# Altium schematic symbol library TS472.SchLib: 1 symbol
Pins are listed as number, name and electrical type; pins without a type are passive.

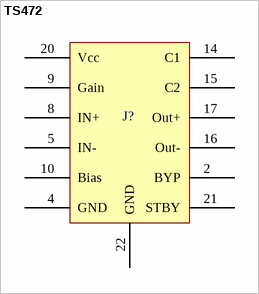
[diagram p0: symbol TS472]

## TS472
designator J?  (value not drawn)
footprint TS472
footprint TS472
pins: 2 BYP, 4 GND, 5 IN-, 8 IN+, 9 Gain, 10 Bias, 14 C1, 15 C2, 16 Out-, 17 Out+, 20 Vcc, 21 STBY, 22 GND